# Altium footprint library HAND-MULTILAYER.PcbLib: 3 footprints
Each footprint in its own frame and in the unit in brackets; x right, y up, seen from the top. Pads: shape width x height; smd on the part's side, far side on the other; paste and mask are expansions set on the pad; w line width, h text height; cw(c..) or ccw(c..) is an arc to the next point about the centre after c.
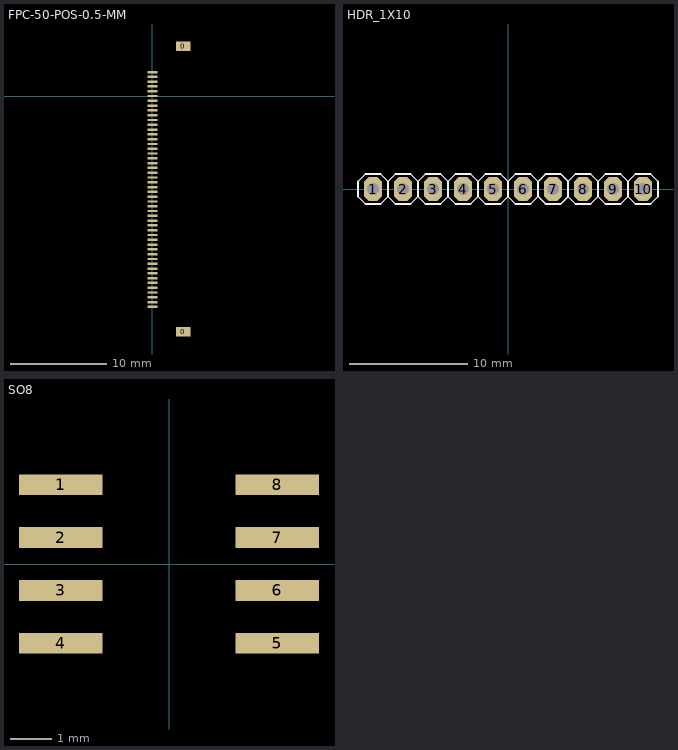
[diagram p0: the footprints below, top view; thin cyan lines are the x and y axes]

## FPC-50-POS-0.5-MM [mm]
pads (52):
  rect 1.5x1 smd: 0(3.2,-24.6) 0(3.2,5.2)
  rect 1x0.25 smd: 1(0,2.5) 2(0,2) 3(0,1.5) 4(0,1) 5(0,0.5) 6(0,0) 7(0,-0.5) 8(0,-1) 9(0,-1.5) 10(0,-2) 11(0,-2.5) 12(0,-3) 13(0,-3.5) 14(0,-4) 15(0,-4.5) 16(0,-5) 17(0,-5.5) 18(0,-6) 19(0,-6.5) 20(0,-7) 21(0,-7.5) 22(0,-8) 23(0,-8.5) 24(0,-9) 25(0,-9.5) 26(0,-10) 27(0,-10.5) 28(0,-11) 29(0,-11.5) 30(0,-12) 31(0,-12.5) 32(0,-13) 33(0,-13.5) 34(0,-14) 35(0,-14.5) 36(0,-15) 37(0,-15.5) 38(0,-16) 39(0,-16.5) 40(0,-17) 41(0,-17.5) 42(0,-18) 43(0,-18.5) 44(0,-19) 45(0,-19.5) 46(0,-20) 47(0,-20.5) 48(0,-21) 49(0,-21.5) 50(0,-22)
3D body "fpc 50 0.5 mm.stp": height 2, standoff -0.05, extent -0.102,-24.993 5.498,5.507

## HDR_1X10 [mil]
pads (10):
  oct 60x80 hole 40: 1(-450,0) 2(-350,0) 3(-250,0) 4(-150,0) 5(-50,0) 6(50,0) 7(150.39,0) 8(250,0) 9(350,0) 10(450,0)
Top Overlay:
  rectangle: 340,-10 360,10
  rectangle: 440,-10 460,10
  rectangle: 240,-10 260,10
  rectangle: 340,-10 360,10
  rectangle: 140.39,-10 160.39,10
  rectangle: -60,-10 -40,10
  rectangle: -160,-10 -140,10
  rectangle: -260,-10 -240,10
  rectangle: -360,-10 -340,10
  rectangle: -460,-10 -440,10
  rectangle: 40,-10 60,10
  lines w6: 199.61,-25 199.61,25 ; -400,-25 -400,25 ; -400,-25 -425,-50 -475,-50 -500,-25 -500,25 -475,50 -425,50 -400,25 ; -400,-25 -375,-50 -325,-50 -300,-25 ; -400,25 -375,50 -325,50 -300,25 ; -300,-25 -275,-50 -225,-50 -200,-25 ; -300,-25 -300,25 ; -300,25 -275,50 -225,50 -200,25 ; -200,-25 -200,25 ; -200,-25 -175,-50 -125,-50 -100,-25 ; -200,25 -175,50 -125,50 -100,25 ; -100,-25 -100,25 ; -100,-25 -75,-50 -25,-50 0,-25 ; -100,25 -75,50 -25,50 0,25 ; 0,-25 0,25 ; 0,-25 25,-50 75,-50 100,-25 100,25 75,50 25,50 0,25 ; 225,-50 275,-50 ; 225,-50 200,-25 200,25 225,50 ; 225,-50 275,-50 ; 225,50 275,50 ; 225,50 275,50 ; 275,-50 300,-25 ; 275,-50 300,-25 ; 275,50 300,25 ; 275,50 300,25 ; 300,-25 325,-50 ; 300,-25 300,25 ; 300,-25 300,25 ; 300,25 325,50 ; 325,-50 375,-50 ; 325,-50 375,-50 ; 325,50 375,50 ; 325,50 375,50 ; 375,-50 400,-25 ; 375,-50 400,-25 ; 375,50 400,25 ; 375,50 400,25 ; 400,-25 425,-50 475,-50 500,-25 500,25 475,50 425,50 400,25 ; 400,-25 400,25 ; 400,-25 400,25 ; 100.39,-25 125.39,-50 175.39,-50 200.39,-25 200.39,25 175.39,50 125.39,50 100.39,25 100.39,-25

## SO8 [mm]
pads (8):
  rect 2x0.5 smd: 1(-2.603,1.905) 2(-2.603,0.635) 3(-2.603,-0.635) 4(-2.603,-1.905) 5(2.603,-1.905) 6(2.603,-0.635) 7(2.603,0.635) 8(2.603,1.905)
3D body "SW3DPS-SO-8-DEFAULT.STEP": height 1.45, standoff 0, extent -2.864,-2.438 2.915,2.464